# Altium schematic symbol library HVPSlibrary.SchLib: 115 symbols
Pins are listed as number, name and electrical type; pins without a type are passive.

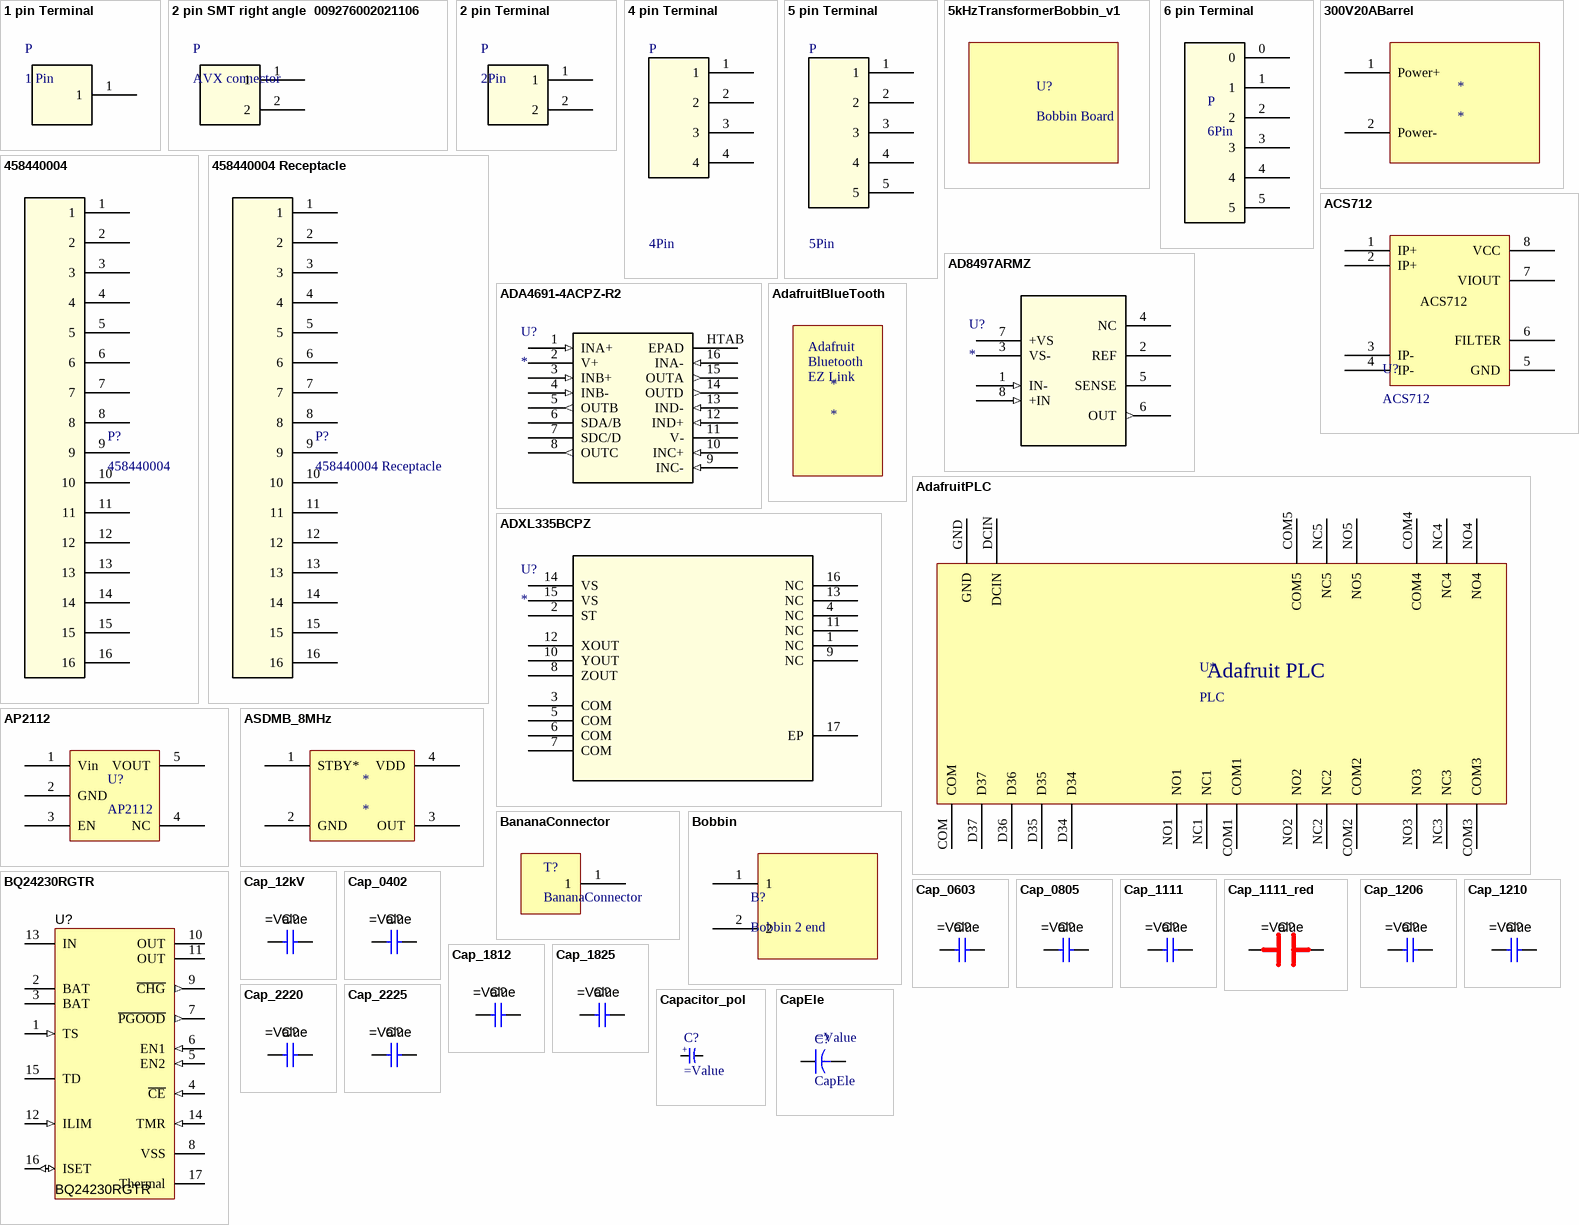
[diagram p0: symbols 1 pin Terminal to CapEle]

## 1 pin Terminal
designator P, comment 1 Pin
1 pin Terminal; ComponentLink1: http://www.digikey.com/scripts/DkSearch/dksus.dll?Detail&itemSeq=199109645&uq=636009051484125489
footprint 1 Pin terminal_MillMax
pins: 1

## 2 pin SMT right angle  009276002021106
designator P, comment AVX connector
2PinSMT; ComponentLink1: http://www.digikey.com/scripts/DkSearch/dksus.dll?Detail&itemSeq=195945201&uq=635977101282764137
footprint 2 pin SMT right angle 009276002021106
pins: 1, 2

## 2 pin Terminal
designator P, comment 2Pin
2 pin Terminal; ComponentLink1: http://www.digikey.com/scripts/DkSearch/dksus.dll?Detail&itemSeq=195945201&uq=635977101282764137
footprint 2 pin Terminal - pitch 2.54mm
footprint 2 pin Terminal - pitch 1.27mm
footprint 2 pin Terminal - pitch 2.54mm - vertical
footprint HiroseDF3
footprint Hirose_DF52_2pin
footprint 2 pin Terminal - pitch 2.54mm - pressfit
footprint 2 pin Terminal - pitch 2.54mm - pressfit - SHORT
footprint Molex 395001002
footprint 2 pin Terminal - pitch 1.27mm - right angle (Right angle, male pin)
footprint S2B-ZR connector (2 pin JST ZH connector)
pins: 1, 2

## 4 pin Terminal
designator P, comment 4Pin
4 pin Terminal; ComponentLink1: http://www.digikey.com/product-detail/en/te-connectivity-amp-connectors/3-644456-6/A31116-ND/698348
footprint 4 pin Terminal - pitch 2.54mm
footprint 4 pin Terminal - pitch 2.54mm - female
footprint 4 pin Terminal - pitch 1.27mm - right angle (Right angle, male pin)
footprint S4B-ZR connector (4 pin JST ZH connector)
pins: 1, 2, 3, 4

## 5 pin Terminal
designator P, comment 5Pin
5 pin Terminal; ComponentLink1: http://www.digikey.com/product-detail/en/te-connectivity-amp-connectors/3-644456-6/A31116-ND/698348
footprint 5 pin Terminal - pitch 2.54mm
footprint 5 pin Terminal - pitch 1.27mm - right angle (Right angle, male pin)
pins: 1, 2, 3, 4, 5

## 5kHzTransformerBobbin_v1
designator U?, comment Bobbin Board
footprint 5kHzTransformerBobbin_v1
footprint 5kHzTransformerBobbin_v1_PVC

## 6 pin Terminal
designator P, comment 6Pin
6 pin Terminal; ComponentLink1: http://www.digikey.com/product-detail/en/te-connectivity-amp-connectors/3-644456-6/A31116-ND/698348
footprint 6 pin Terminal - pitch 2.54mm
footprint 6 pin Terminal - pitch 2.54mm - female
footprint 6 pin Terminal - pitch 2.54mm - right angle (Right angle, male pin)
footprint 6 pin Terminal - pitch 1.27mm - right angle (Right angle, male pin)
footprint S6B-ZR connector (6pin JST ZH connector)
pins: 0, 1, 2, 3, 4, 5

## 300V20ABarrel
designator *
footprint PowerBarrel300V
pins: 1 Power+, 2 Power-

## 458440004
designator P?
458440004, Molex, Card Edge Connectors; ComponentLink: http://www.digikey.com/product-detail/en/molex-llc/0458440004/WM7543-ND/3044615
footprint Straddle 16 POS
pins: 1, 2, 3, 4, 5, 6, 7, 8, 9, 10, 11, 12, 13, 14, 15, 16

## 458440004 Receptacle
designator P?
458440004, Molex, Card Edge Connectors Receptacle; ComponentLink: http://www.digikey.com/product-detail/en/molex-llc/0458440004/WM7543-ND/3044615
footprint Straddle 16 Mating PCB FootPrint
footprint Straddle 16 Mating PCB FootPrint - pitch 1.27
pins: 1, 2, 3, 4, 5, 6, 7, 8, 9, 10, 11, 12, 13, 14, 15, 16

## ACS712
designator U?
Hall Sensor IC (6 x 5mm); SubFamily: Hall effect current sensor; Bandwidth: 80 kHz; Vin (V): 5 V; ComponentLink1URL: http://www.allegromicro.com/en/Products/Current-Sensor-ICs/Zero-To-Fifty-Amp-Integrated-Conductor-Sensor-ICs/ACS712.aspx; ComponentLink1Description: Manufacurer link; Package: SOIC8; ComponentLink2URL: http://www.digikey.com/product-detail/en/allegro-microsystems-llc/ACS712ELCTR-05B-T/620-1189-1-ND/1284606; ComponentLink2Description: Digikey
footprint SOIC-8
pins: 1 IP+, 2 IP+, 3 IP-, 4 IP-, 5 GND, 6 FILTER, 7 VIOUT, 8 VCC

## AD8497ARMZ
designator U?
Imported; RefDes: RefDes; Type: Type; Value: Value
footprint RM_8
pins: 1 IN- (in), 2 REF, 3 VS-, 4 NC, 5 SENSE, 6 OUT (out), 7 +VS, 8 +IN (in)

## ADA4691-4ACPZ-R2
designator U?
Imported; Manufacturer_Part_Number: ada4691-4acpz-r2; Vendor: ANALOG; C: Copyright (C) 2015 Accelerated Designs. All rights reserved; Copyright: Copyright (C) 2015 Accelerated Designs. All rights reserved; RefDes: RefDes; Type: Type; Value: Value
footprint CP_16_22
footprint CP_16_22
pins: 1 INA+ (in), 2 V+, 3 INB+ (in), 4 INB- (in), 5 OUTB (out), 6 SDA/B, 7 SDC/D, 8 OUTC (out), 9 INC- (in), 10 INC+ (in), 11 V-, 12 IND+ (in), 13 IND- (in), 14 OUTD (out), 15 OUTA (out), 16 INA- (in), HTAB EPAD

## AdafruitBlueTooth
designator *
footprint Adafruit Bluefruit EZ Link
text: Adafruit; Bluetooth; EZ Link

## AdafruitPLC
designator U*, comment PLC
Link: https://www.adafruit.com/product/3418
pins: COM, COM1, COM2, COM3, COM4, COM5, D34, D35, D36, D37, DCIN, GND, NC1, NC2, NC3, NC4, NC5, NO1, NO2, NO3, NO4, NO5
text: Adafruit PLC

## ADXL335BCPZ
designator U?
Imported; Manufacturer_Part_Number: ADXL320JCP; Vendor: Vendor; RefDes: RefDes; Type: Type; Value: Value
footprint CP_16_5A
footprint CP_16_5A
pins: 1 NC, 2 ST, 3 COM, 4 NC, 5 COM, 6 COM, 7 COM, 8 ZOUT, 9 NC, 10 YOUT, 11 NC, 12 XOUT, 13 NC, 14 VS (power), 15 VS (power), 16 NC, 17 EP

## AP2112
designator U?
AP2112, LDO; ComponentLink: http://www.digikey.com/scripts/DkSearch/dksus.dll?Detail&itemSeq=196056318&uq=635977843130932286
footprint SOT23-5
pins: 1 Vin, 2 GND, 3 EN, 4 NC, 5 VOUT

## ASDMB_8MHz
designator *
footprint ASDMB
pins: 1 STBY*, 2 GND, 3 OUT, 4 VDD

## BananaConnector
designator T?
footprint BananaJack2mm
footprint BananaJack2mm_SMT
pins: 1

## Bobbin
designator B?, comment Bobbin 2 end
footprint RM14 Bobbin
footprint RM14 Bobbin - full
footprint RM14 Bobbin - shrink
pins: 1, 2

## BQ24230RGTR
designator U?
USB Friendly 0.5 A Li+ Charger with Dynamic Power Management, 10.5 V OVP, 4.3 V, -40 to 85 degC, 16-pin QFN (RGT), Green (RoHS & no Sb/Br); Manufacturer: Texas Instruments; Alternate Manufacturer: None; Alternate PartNumber: Equivalent; Lead Acid: N; SubFamily: Battery Charge Management; Vin(Min)(V): 4.35; DatasheetVersion: SLUS821C; PackageVersion: revH, Oct-2011; PackageReference: RGT0016C; PackageDescription: 16-Pin Plastic Quad Flat No-Lead, 3 x 3 mm Body, 0.5 mm Pitch, 1.7 x 1.7 mm Exposed Pad; Supplier 1: Digi-Key; Supplier Part Number 1: BQ24230RGTR-ND; Supplier 2: Mouser; Supplier Part Number 2: 595-BQ24230RGTR; Eco-Plan: Green (RoHS & no Sb/Br); Li-Ion: N; Li-Polymer: N; NiCd: N; NiMH: N; Over Voltage Protection: N; MountType: SMT; PartNumber: BQ24230RGTR; Code_JEDEC: MO-220; ComponentLink1Description: Datasheet; ComponentLink1URL: http://www.ti.com/general/docs/lit/getliterature.tsp?genericPartNumber=BQ24232&fileType=pdf
footprint RGT16_1P7X1P7
footprint RGT16_1P7X1P7
pins: 1 TS (in) "External NTC Thermistor Input. Connect the TS input to the NTC thermistor in the battery pack. TS monitors a 10-k ohm NTC thermistor. For applications that do not utilize the TS function, connect a 10-k ohm fixed resistor (See Datasheet)", 2 BAT (power) "Charger Power Stage Output and Battery Voltage Sense Input. Connect BAT to the positive terminal of the battery. Bypass BAT to VSS with a 4.7-uF to 47-uF ceramic capacitor.", 3 BAT (power) "Charger Power Stage Output and Battery Voltage Sense Input. Connect BAT to the positive terminal of the battery. Bypass BAT to VSS with a 4.7-uF to 47-uF ceramic capacitor.", 4 ~{CE} (in) "Charge Enable Active-Low Input. Connect C\E\ to a high logic level to place the battery charger in standby mode. In standby mode, OUT is active and battery supplement mode is still available. Connect C\E\ to a low logic (See Datasheet)", 5 EN2 (in) "Input Current Limit Configuration Inputs. Use EN2 control the maximum input current and enable USB compliance. See Table 2 for the description of the operation states. EN2 is internally pulled down with ~285 k ohm. Do not (See Datasheet)", 6 EN1 (in) "Input Current Limit Configuration Inputs. Use EN1 control the maximum input current and enable USB compliance. See Table 2 for the description of the operation states. EN1  is internally pulled down with ~285 k ohm. Do not (See Datasheet)", 7 ~{PGOOD} (out) "Open-drain Power Good Status Indication Output. P\G\O\O\D\ pulls to VSS when a valid input source is detected. P\G\O\O\D\ is high-impedance when the input power is not within specified limits. Connect P\G\O\O\D\ to the (See Datasheet)", 8 VSS "Ground. Connect to the thermal pad and to the ground rail of the circuit.", 9 ~{CHG} (out) "Open-Drain Charging Status Indication Output. C\H\G\ pulls to VSS when the battery is charging. C\H\G\ is high impedance when charging is complete and when charger is disabled.", 10 OUT (power) "System Supply Output. OUT provides a regulated output when the input is below the OVP threshold and above the regulation voltage. When the input is out of the operation range, OUT is connected to VBAT. Connect OUT to the (See Datasheet)", 11 OUT (power) "System Supply Output. OUT provides a regulated output when the input is below the OVP threshold and above the regulation voltage. When the input is out of the operation range, OUT is connected to VBAT. Connect OUT to the (See Datasheet)", 12 ILIM (in) "Adjustable Current Limit Programming Input. Connect a 3.1-k ohm to 7.8-k ohm resistor from ILIM to VSS to program the maximum input current (EN2=1, EN1=0). The input current includes the system load and the battery charge (See Datasheet)", 13 IN (power) "Input Power Connection. Connect IN to the connected to external DC supply (AC adapter or USB port). The input operating range is 4.35 V to 6.6 V. The input can accept voltages up to 26 V without damage but operation is (See Datasheet)", 14 TMR (in) "Timer Programming Input. TMR controls the precharge and fast-charge safety timers. Connect TMR to VSS to disable all safety timers. Connect a 18-k ohm to 72-k ohm resistor between TMR and VSS to program the timers a desired (See Datasheet)", 15 TD "Termination Current Programming Input. Connect a 0-ohm to 15-k ohm resistor from ITERM to VSS to program the termination current. Leave ITERM unconnected to set the termination current to the internal default 10% threshold.", 16 ISET (io) "Fast-Charge Current Programming Input. Connect a 3-k ohm to 36-k ohm resistor from ISET to VSS to program the fast-charge current level. Charging is disabled if ISET is left unconnected. While charging, the voltage at ISET (See Datasheet)", 17 Thermal "Ground. Connect to the thermal pad and to the ground rail of the circuit."

## Cap_12kV
designator C?
CAP, HV, 12kV; Polarized: N; CompType: Capacitor; U/M: EA; Cap_Case: Through-hole; SymbolVersion: 2015-08-22; RoHS: Y; MountType: SMT mounting; Published: 2015-08-22; Publisher: YiouHe; Value: =Value
simulation model Cap
footprint Cap_12kV (Through-hole Capacitor, Body 10x10 mm)
pins: 1, 2

## Cap_0402
designator C?
CAP, CERM, 0402; Polarized: N; CompType: Capacitor; U/M: EA; Cap_Case: 0603; SymbolVersion: 2015-08-22; RoHS: Y; MountType: SMT; Published: 2015-08-22; Publisher: YiouHe; Value: =Value
simulation model Cap
footprint CAP0402 (Chip Capacitor, 2-Leads, Body 1.0x0.5mm, IPC Medium Density)
pins: 1, 2

## Cap_0603
designator C?
CAP, CERM, 0603; Polarized: N; CompType: Capacitor; U/M: EA; Cap_Case: 0603; SymbolVersion: 2015-08-22; RoHS: Y; MountType: SMT; Published: 2015-08-22; Publisher: YiouHe; Value: =Value
simulation model Cap
footprint CAP0603 (Chip Capacitor, 2-Leads, Body 1.6x0.8mm, IPC Medium Density)
pins: 1, 2

## Cap_0805
designator C?
CAP, CERM, 0805; Polarized: N; CompType: Capacitor; U/M: EA; Cap_Case: 0805; SymbolVersion: 2015-08-22; RoHS: Y; MountType: SMT; Published: 2015-08-22; Publisher: YiouHe; Value: =Value
simulation model Cap
footprint IND0805 (Chip Inductor 2-Leads, Body 2.0x1.2mm, IPC Medium Density)
pins: 1, 2

## Cap_1111
designator C?
CAP, CERM, 1111; Polarized: N; CompType: Capacitor; U/M: EA; Cap_Case: 1111; SymbolVersion: 2015-08-22; RoHS: Y; MountType: SMT; Published: 2015-08-22; Publisher: YiouHe; Value: =Value
simulation model Cap
footprint C1111 (Chip Capacitor, Body 2.98x2.79mm, IPC High Density)
pins: 1, 2

## Cap_1111_red
designator C?
CAP, CERM, 1111; Polarized: N; CompType: Capacitor; U/M: EA; Cap_Case: 1111; SymbolVersion: 2015-08-22; RoHS: Y; MountType: SMT; Published: 2015-08-22; Publisher: YiouHe; Value: =Value
simulation model Cap
footprint C1111 (Chip Capacitor, Body 2.98x2.79mm, IPC High Density)
pins: 1, 2

## Cap_1206
designator C?
CAP, CERM, 1206; Polarized: N; CompType: Capacitor; U/M: EA; Cap_Case: 1206; SymbolVersion: 2015-08-22; RoHS: Y; MountType: SMT; Published: 2015-08-22; Publisher: YiouHe; Value: =Value
simulation model Cap
footprint C1206 (Chip Capacitor, Body 3.2x1.6mm, IPC High Density)
pins: 1, 2

## Cap_1210
designator C?
CAP, CERM, 1210; Polarized: N; CompType: Capacitor; U/M: EA; Cap_Case: 1210; SymbolVersion: 2015-08-22; RoHS: Y; MountType: SMT; Published: 2015-08-22; Publisher: YiouHe; Value: =Value
simulation model Cap
footprint C1210 (Chip Capacitor, Body 3.2x2.5mm, IPC High Density)
pins: 1, 2

## Cap_1812
designator C?
CAP, CERM, 1812; Polarized: N; CompType: Capacitor; U/M: EA; Cap_Case: 1812; SymbolVersion: 2015-08-22; RoHS: Y; MountType: SMT; Published: 2015-08-22; Publisher: YiouHe; Value: =Value
simulation model Cap
footprint C1812 (Chip Capacitor, Body 4.5x3.2mm, IPC High Density)
pins: 1, 2

## Cap_1825
designator C?
CAP, CERM, 1825; Polarized: N; CompType: Capacitor; U/M: EA; Cap_Case: 1825; SymbolVersion: 2015-08-22; RoHS: Y; MountType: SMT; Published: 2015-08-22; Publisher: YiouHe; Value: =Value
simulation model Cap
footprint C1825 (Chip Capacitor, Body 4.6x6.3mm, IPC High Density)
pins: 1, 2

## Cap_2220
designator C?
CAP, CERM, 2220; Polarized: N; CompType: Capacitor; U/M: EA; Cap_Case: 2220; SymbolVersion: 2015-08-22; RoHS: Y; MountType: SMT; Published: 2015-08-22; Publisher: YiouHe; Value: =Value
simulation model Cap
footprint C2220 (Chip Capacitor, Body 5.7x5mm, IPC High Density)
footprint C2220_roundedge (Chip Capacitor, Body 5.7x5mm, IPC High Density)
pins: 1, 2

## Cap_2225
designator C?
CAP, CERM, 2225; Polarized: N; CompType: Capacitor; U/M: EA; Cap_Case: 2225; SymbolVersion: 2015-08-22; RoHS: Y; MountType: SMT; Published: 2015-08-22; Publisher: YiouHe; Value: =Value
simulation model Cap
footprint C2225 (Chip Capacitor, Body 5.7x6.4mm, IPC High Density)
pins: 1, 2

## Capacitor_pol
designator C?
Polarised chip capacitor
footprint C1206 (Chip Capacitor, Body 3.2x1.6mm, IPC High Density)
pins: 1, 2
text: +

## CapEle
designator C?
Capacitor; Published: 23-Sep-2002; PackageReference: CAPR5-4X5; Publisher: Altium Limited; PackageDescription: Capacitor; 2 Leads; Value: =Value
simulation model CAP (Capacitor)
signal-integrity model Cap
footprint ElecCap
footprint ElecCap - 3.5 mm space
pins: 1, 2

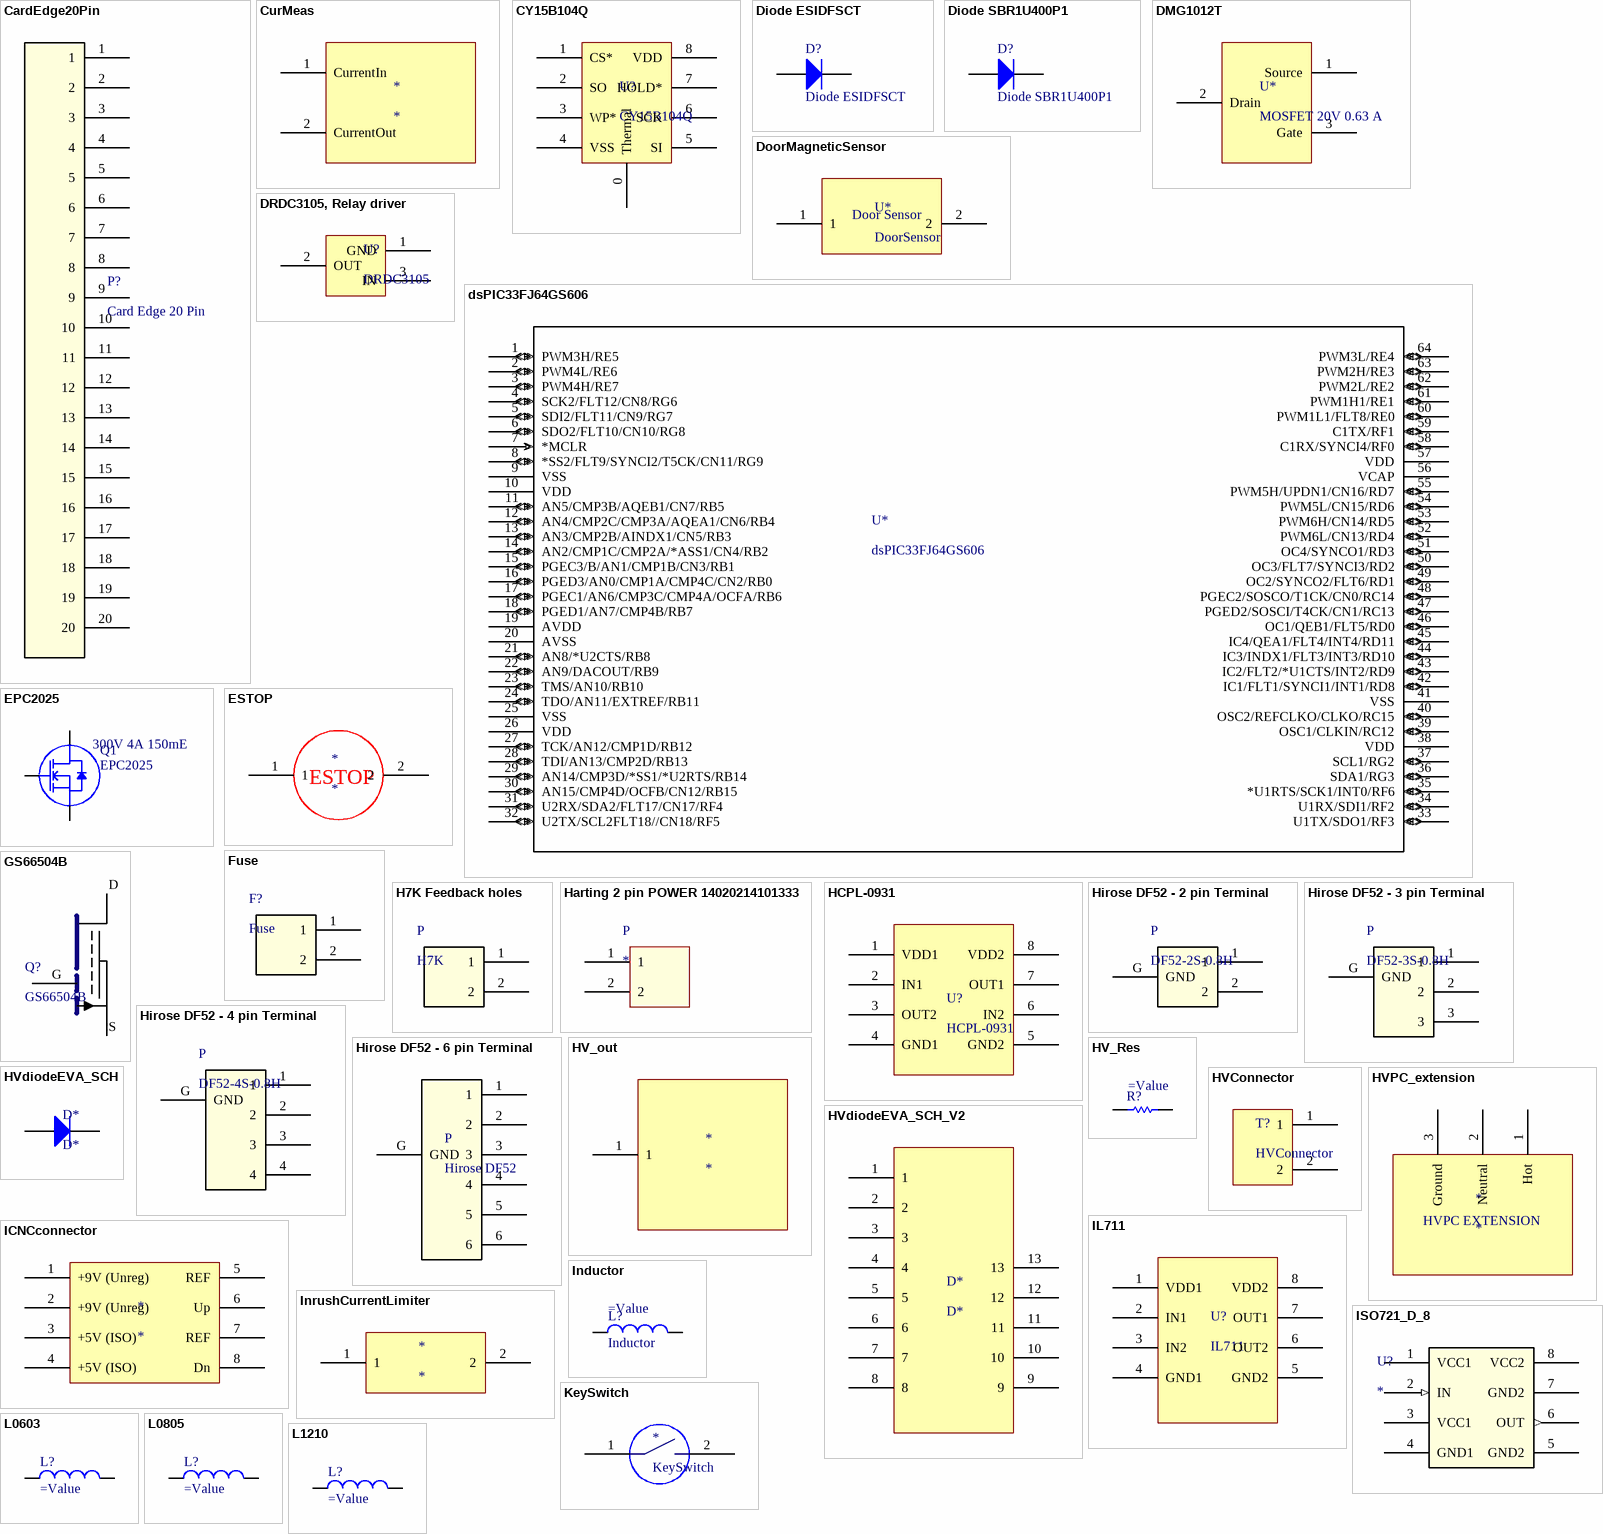
[diagram p1: symbols CardEdge20Pin to L1210]

## CardEdge20Pin
designator P?, comment Card Edge 20 Pin
3M 20 pin card edge, SPD08-020-RB-TR; ComponentLink: https://www.digikey.com/products/en?keywords=3M10682CT-ND
footprint 3MCardEdge20Pin_Board (SPD08-020-RB-TR)
footprint 3MCardEdge20Pin_Connector (SPD08-020-RB-TR)
pins: 1, 2, 3, 4, 5, 6, 7, 8, 9, 10, 11, 12, 13, 14, 15, 16, 17, 18, 19, 20

## CurMeas
designator *
footprint CurrentSensor
pins: 1 CurrentIn, 2 CurrentOut

## CY15B104Q
designator U?
CY15B104Q, Cypress, 4MB, F-Ram
footprint DFN-8pin
pins: 0 Thermal, 1 CS*, 2 SO, 3 WP*, 4 VSS, 5 SI, 6 SCK, 7 HOLD*, 8 VDD

## Diode ESIDFSCT
designator D?
ES1DFSCT; Published: 8-Sept-2015; PackageReference: 2106; Publisher: Altium Limited; PackageDescription: Diode, pad 5.49x1.67 mm (LxW. max); ComponentLink1Description: Manufacturer Link; ComponentLink1URL: http://www.digikey.com/product-detail/en/ES1D/ES1DFSCT-ND/458940
footprint 2106
pins: 1 A, 2 K

## Diode SBR1U400P1
designator D?
SBR1U400P1; Published: 8-Sept-2015; PackageReference: 2106; Publisher: Altium Limited; PackageDescription: Diode, pad 5.49x1.67 mm (LxW. max); ComponentLink1Description: Manufacturer Link; ComponentLink1URL: http://www.digikey.com/product-detail/en/ES1D/ES1DFSCT-ND/458940
footprint SBR1U400P1
pins: A, K

## DMG1012T
designator U*, comment MOSFET 20V 0.63 A
Component Link: http://www.diodes.com/_files/datasheets/ds31783.pdf
footprint SOT523
pins: 1 Source, 2 Drain, 3 Gate

## DoorMagneticSensor
designator U*, comment DoorSensor
Link: https://www.adafruit.com/product/375
pins: 1, 2
text: Door Sensor

## DRDC3105, Relay driver
designator U?, comment DRDC3105
DRDC3105, Relay driver; ComponentLink: http://www.digikey.com/product-detail/en/diodes-incorporated/DRDC3105F-7/DRDC3105F-7DICT-ND/3028441
footprint SOT23 (3 PIN)
pins: 1 GND, 2 OUT, 3 IN

## dsPIC33FJ64GS606
designator U*
MicroChip High Speed PWM MCU; SubFamily: Microcontroller; Vin (V): 3 - 3.6 V; ComponentLink1URL: http://www.digikey.com/product-detail/en/microchip-technology/DSPIC33FJ64GS610-50I%2FPF/DSPIC33FJ64GS610-50I%2FPF-ND/3046584; ComponentLink1Description: Digikey link; ComponentLink2URL: http://ww1.microchip.com/downloads/en/DeviceDoc/70000591f.pdf; ComponentLink2Description: Datasheet; DatasheetVersion: DS7000591F; Package: 64-pin TQFN, Body 10x10 mm, pitch 0.5 BSC; Manufacturer: Microchip; PartNumber: dsPIC33FJ64GS606
footprint TQFP64_10x10MC
footprint TQFP64_10x10MC
pins: 1 PWM3H/RE5 (io), 2 PWM4L/RE6 (io), 3 PWM4H/RE7 (io), 4 SCK2/FLT12/CN8/RG6 (io), 5 SDI2/FLT11/CN9/RG7 (io), 6 SDO2/FLT10/CN10/RG8 (io), 7 *MCLR (in), 8 *SS2/FLT9/SYNCI2/T5CK/CN11/RG9 (io), 9 VSS, 10 VDD (power), 11 AN5/CMP3B/AQEB1/CN7/RB5 (io), 12 AN4/CMP2C/CMP3A/AQEA1/CN6/RB4 (io), 13 AN3/CMP2B/AINDX1/CN5/RB3 (io), 14 AN2/CMP1C/CMP2A/*ASS1/CN4/RB2 (io), 15 PGEC3/B/AN1/CMP1B/CN3/RB1 (io), 16 PGED3/AN0/CMP1A/CMP4C/CN2/RB0 (io), 17 PGEC1/AN6/CMP3C/CMP4A/OCFA/RB6 (io), 18 PGED1/AN7/CMP4B/RB7 (io), 19 AVDD (power), 20 AVSS, 21 AN8/*U2CTS/RB8 (io), 22 AN9/DACOUT/RB9 (io), 23 TMS/AN10/RB10 (io), 24 TDO/AN11/EXTREF/RB11 (io), 25 VSS, 26 VDD (power), 27 TCK/AN12/CMP1D/RB12 (io), 28 TDI/AN13/CMP2D/RB13 (io), 29 AN14/CMP3D/*SS1/*U2RTS/RB14 (io), 30 AN15/CMP4D/OCFB/CN12/RB15 (io), 31 U2RX/SDA2/FLT17/CN17/RF4 (io), 32 U2TX/SCL2FLT18//CN18/RF5 (io), 33 U1TX/SDO1/RF3 (io), 34 U1RX/SDI1/RF2 (io), 35 *U1RTS/SCK1/INT0/RF6 (io), 36 SDA1/RG3 (io), 37 SCL1/RG2 (io), 38 VDD (power), 39 OSC1/CLKIN/RC12 (io), 40 OSC2/REFCLKO/CLKO/RC15 (io), 41 VSS, 42 IC1/FLT1/SYNCI1/INT1/RD8 (io), 43 IC2/FLT2/*U1CTS/INT2/RD9 (io), 44 IC3/INDX1/FLT3/INT3/RD10 (io), 45 IC4/QEA1/FLT4/INT4/RD11 (io), 46 OC1/QEB1/FLT5/RD0 (io), 47 PGED2/SOSCI/T4CK/CN1/RC13 (io), 48 PGEC2/SOSCO/T1CK/CN0/RC14 (io), 49 OC2/SYNCO2/FLT6/RD1 (io), 50 OC3/FLT7/SYNCI3/RD2 (io), 51 OC4/SYNCO1/RD3 (io), 52 PWM6L/CN13/RD4 (io), 53 PWM6H/CN14/RD5 (io), 54 PWM5L/CN15/RD6 (io), 55 PWM5H/UPDN1/CN16/RD7 (io), 56 VCAP (power), 57 VDD (power), 58 C1RX/SYNCI4/RF0 (io), 59 C1TX/RF1 (io), 60 PWM1L1/FLT8/RE0 (io), 61 PWM1H1/RE1 (io), 62 PWM2L/RE2 (io), 63 PWM2H/RE3 (io), 64 PWM3L/RE4 (io)

## EPC2025
designator Q1  value 300V 4A 150mE
300V 4A 150mE; PCBfootprint: EPC2x300M; MFG: EPC; Config: *; MFGPN: EPC2025
footprint EPC2X300M (Micro SMD 2mm x 2mm 12pin BGA)
pins: 1 G, 2 SS (oe), 3 SP2 (oe), 4 SP1 (oe), 5 D2 (oc), 6 D1 (oc), 7 D3 (oc), 8 D4 (oc), 9 SP3 (oe), 10 SP4 (oe), 11 SP3 (oe), 12 SP3 (oe)

## ESTOP
designator *
pins: 1, 2

## Fuse
designator F?
ComponentLink1: http://www.digikey.com/scripts/DkSearch/dksus.dll?Detail&itemSeq=195945201&uq=635977101282764137
footprint LittleFuse462
pins: 1, 2

## GS66504B
designator Q?
GAN TRANS E-MODE 650V
footprint GS66504B (GAN TRANS E-MODE 650V)
footprint GS66504B (GAN TRANS E-MODE 650V)
pins: D, G, S

## H7K Feedback holes
designator P, comment H7K
H7K Feedback holes
footprint H7kFBholes (High voltage side feedback holes)
pins: 1, 2

## Harting 2 pin POWER 14020214101333
designator P
Harting 2 pin POWER 14020214101333
footprint Harting 2 pin POWER 14020214101333
footprint Harting 2 pin POWER 14020214101333
pins: 1, 2

## HCPL-0931
designator U?
ComponentLink: http://www.digikey.com/product-detail/en/broadcom-limited/HCPL-0931/516-2702-5-ND/969355
footprint SOIC-8
pins: 1 VDD1, 2 IN1, 3 OUT2, 4 GND1, 5 GND2, 6 IN2, 7 OUT1, 8 VDD2

## Hirose DF52 - 2 pin Terminal
designator P, comment DF52-2S-0.8H
Hirose DF52 - 2 pin Terminal; ComponentLink1: http://www.mouser.com/ds/2/185/DF52_catalog-939321.pdf
footprint Hirose_DF52_2pin
pins: 1, 2, G GND

## Hirose DF52 - 3 pin Terminal
designator P, comment DF52-3S-0.8H
Hirose DF52 - 3 pin Terminal; ComponentLink1: http://www.mouser.com/ds/2/185/DF52_catalog-939321.pdf
footprint Hirose_DF52_3pin
pins: 1, 2, 3, G GND

## Hirose DF52 - 4 pin Terminal
designator P, comment DF52-4S-0.8H
Hirose DF52 - 4 pin Terminal; ComponentLink1: http://www.mouser.com/ds/2/185/DF52_catalog-939321.pdf
footprint Hirose_DF52_4pin
pins: 1, 2, 3, 4, G GND

## Hirose DF52 - 6 pin Terminal
designator P, comment Hirose DF52
Hirose DF52 - 6 pin Terminal; ComponentLink1: http://www.digikey.com/product-detail/en/te-connectivity-amp-connectors/3-644456-6/A31116-ND/698348
footprint Hirose_DF52_6pin
pins: 1, 2, 3, 4, 5, 6, G GND

## HV_out
designator *
footprint HV_out (Output Connection)
pins: 1

## HV_Res
designator R?  (value not drawn)
Resistor; Published: 8-Sept-2015; LatestRevisionNote: Re-released for DXP Platform.; PackageReference: 5020; Publisher: Altium Limited; PackageDescription: SMD resistor; Value: =Value
simulation model RESISTOR (Resistor)
signal-integrity model Res
footprint RES5020
pins: 1, 2

## HVConnector
designator T?
footprint Hirose_DF22_2pin_rightangle
pins: 1, 2

## HVdiodeEVA_SCH
designator D*, comment D*
High Voltage Diodes for EVA board
footprint HVDiodeEVA_footprint1
footprint GeneSiC3_3kV
footprint GeneSiC3_3kV_bodyonly
pins: A, K

## HVdiodeEVA_SCH_V2
designator D*, comment D*
High Voltage Diodes for EVA board
footprint HVDIODEEVA_FULLARRAY_V1
footprint HVDIODEEVA_FULLARRAY_V2
footprint HVDIODEEVA_FULLARRAY_V3
footprint HVDIODEEVA_FULLARRAY_V4
footprint HVDIODEEVA_FULLARRAY_V5
footprint HVDIODEEVA_FULLARRAY_V6
pins: 1, 2, 3, 4, 5, 6, 7, 8, 9, 10, 11, 12, 13

## HVPC_extension
designator *
pins: 1 Hot, 2 Neutral, 3 Ground
text: HVPC EXTENSION

## ICNCconnector
designator *
footprint HDR2X4 (Connector; Header; 4x2 Position)
pins: 1 +9V (Unreg) (power), 2 +9V (Unreg) (power), 3 +5V (ISO) (power), 4 +5V (ISO) (power), 5 REF, 6 Up, 7 REF, 8 Dn

## IL711
designator U?
High speed digital isolator
footprint MSOP8
footprint MSOP8
footprint MSOP8
pins: 1 VDD1, 2 IN1, 3 IN2, 4 GND1, 5 GND2, 6 OUT2, 7 OUT1, 8 VDD2

## Inductor
designator L?
ResonantInd; Code_IEC: 1005; Published: 8-Jun-2000; LatestRevisionDate: 29-May-2009; LatestRevisionNote: IPC-7351 Footprint Added.; PackageReference: 0402-A; Publisher: Altium Limited; PackageDescription: Chip Inductor; Code_JEITA: 0402; Value: =Value
simulation model INDUCTOR (Inductor)
signal-integrity model Inductor
footprint CurrentSensor
footprint ASPI4mmInductor
footprint SD25inductor (http://www.cooperindustries.com/content/dam/public/bussmann/Electronics/Resources/product-datasheets/BUS_Elx_PM_4311_SD_Series_High_Power_Density.pdf)
pins: 1, 2

## InrushCurrentLimiter
designator *
footprint InrushCurrentLimiter
pins: 1, 2

## ISO721_D_8
designator U?
Imported; Manufacturer: Texas Instruments; GENERIC_PART_NUMBER: ISO721; Manufacturer_Part_Number: iso721_d_8; INDUSTRY_STD_PKG_TYPE: SOIC; FAMILY_NAME: ISOLATOR; PIN_COUNT: 8; PACKAGE_DESIGNATOR: D; Datasheet URL: http://www.ti.com/lit/gpn/ISO721; Vendor: Texas Instruments; RefDes: RefDes; Type: Type; Value: Value
footprint D8
footprint D8
pins: 1 VCC1 (power), 2 IN (in), 3 VCC1 (power), 4 GND1 (power), 5 GND2 (power), 6 OUT (out), 7 GND2 (power), 8 VCC2 (power)

## KeySwitch
designator *
Link: https://www.mcmaster.com/#7278k14/=1cmk0ed
pins: 1, 2

## L0603
designator L?
Chip Inductor; Value: =Value
footprint CAP0603 (Chip Capacitor, 2-Leads, Body 1.6x0.8mm, IPC Medium Density)
pins: 1, 2

## L0805
designator L?
Chip Inductor; Value: =Value
footprint IND0805 (Chip Inductor 2-Leads, Body 2.0x1.2mm, IPC Medium Density)
pins: 1, 2

## L1210
designator L?
Chip Inductor; Value: =Value
footprint C1210 (Chip Capacitor, Body 3.2x2.5mm, IPC High Density)
pins: 1, 2

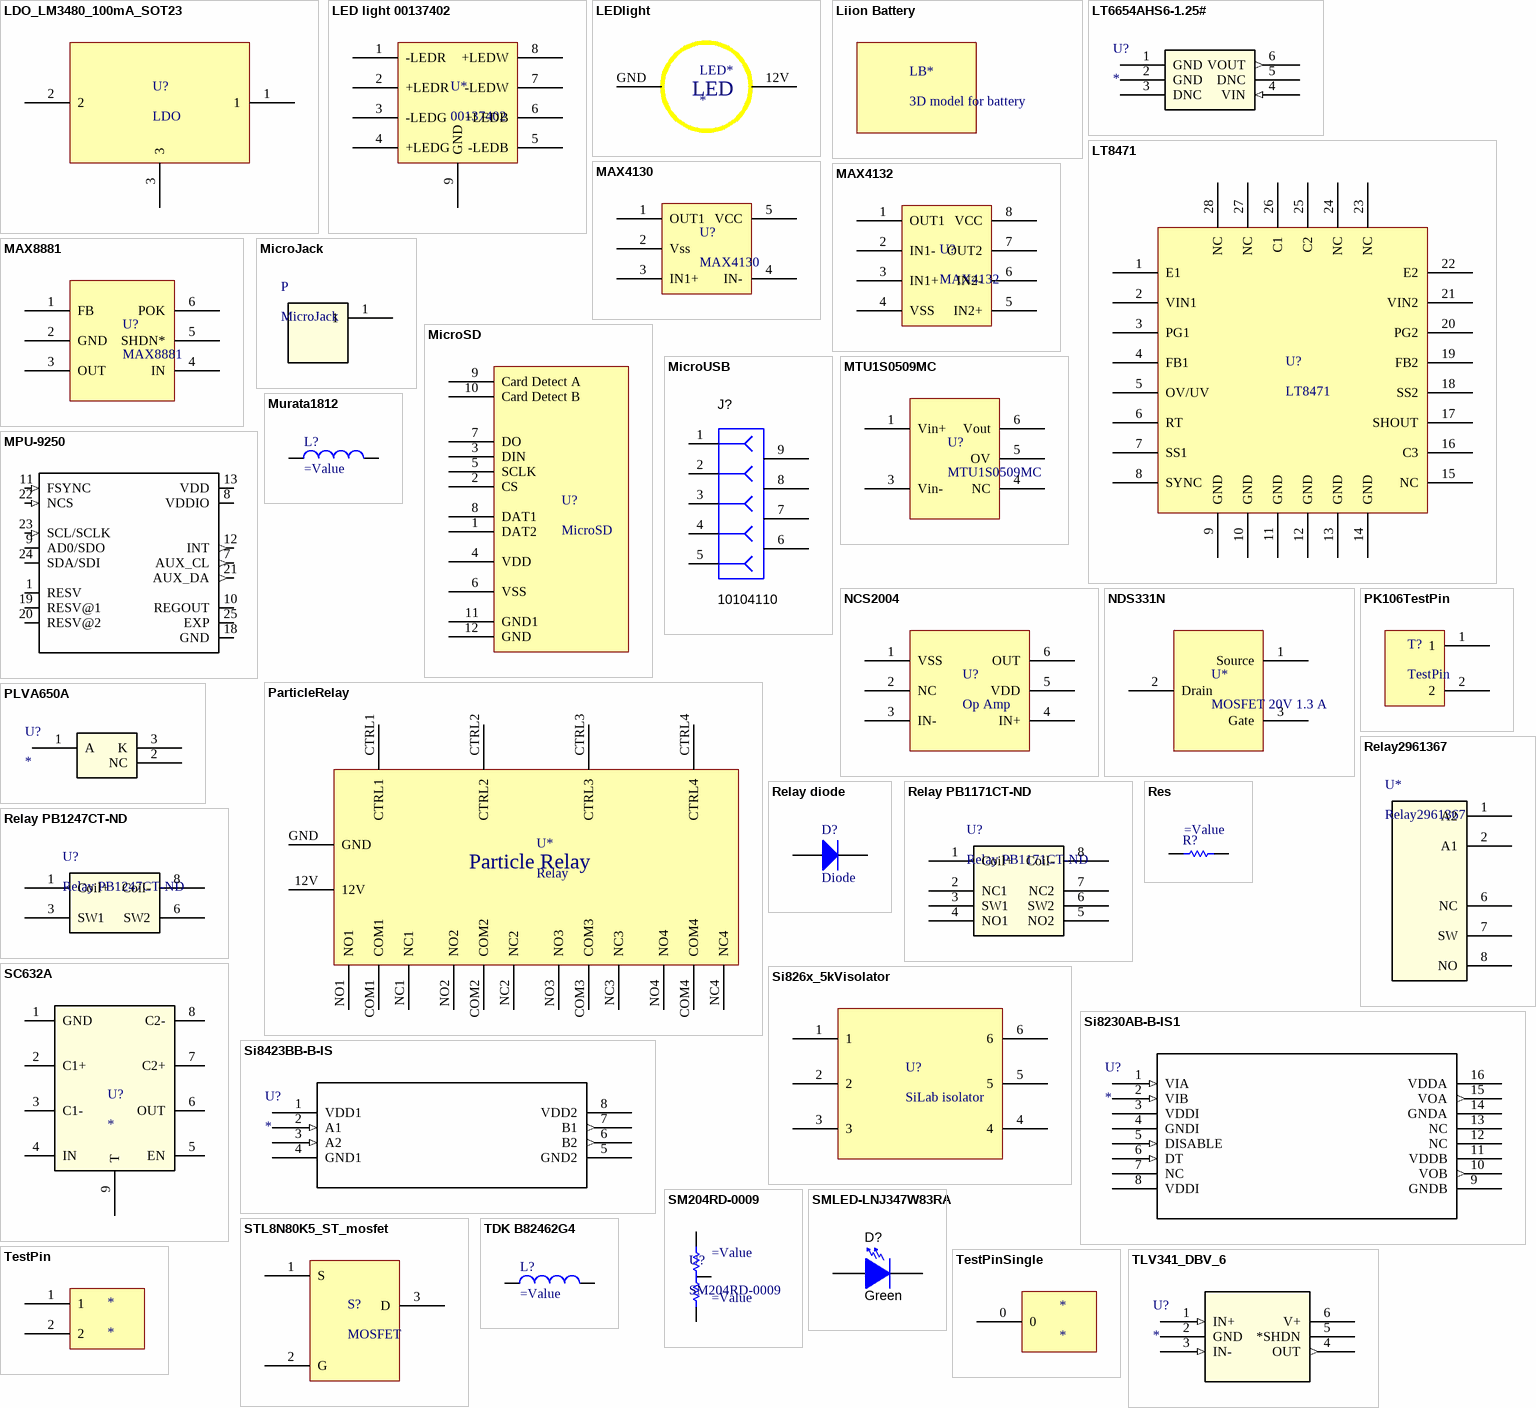
[diagram p2: symbols LDO_LM3480_100mA_SOT23 to TLV341_DBV_6]

## LDO_LM3480_100mA_SOT23
designator U?, comment LDO
TI LDO
footprint SOT23_TI_LDO (3 PIN)
pins: 1, 2, 3

## LED light 00137402
designator U*, comment 00137402
Multi color LED; Componentlink: http://www.osram-os.com/Graphics/XPic7/00137402_0.pdf
footprint LED00137402
pins: 1 -LEDR, 2 +LEDR, 3 -LEDG, 4 +LEDG, 5 -LEDB, 6 +LEDB, 7 -LEDW, 8 +LEDW, 9 GND

## LEDlight
designator LED*
Link: https://www.amazon.com/Xprite-Intensity-Enforcement-Emergency-Magnetic/dp/B01A7VCJEQ
pins: 12V, GND
text: LED

## Liion Battery
designator LB*, comment 3D model for battery
footprint 3D model for Lipo Battery (Nano Tech 130mAh)

## LT6654AHS6-1.25#
designator U?
Imported; Manufacturer_Part_Number: lt6654ahs6-1.25#trmpbf; Vendor: Linear Technology; Value: Value; Type: Type; RefDes: RefDes
footprint TSOT-23_S6
footprint TSOT-23_S6
pins: 1 GND (power), 2 GND (power), 3 DNC, 4 VIN (in), 5 DNC, 6 VOUT (out)

## LT8471
designator U?
LT8471, Dual Multitopology    DC/DC Converters with 2A   Switches and Synchronization; ComponentLinke1: http://www.digikey.com/product-detail/en/linear-technology/LT8471EUFD%23PBF/LT8471EUFD%23PBF-ND/5819075
footprint UFDQFN-28pin
pins: 1 E1, 2 VIN1, 3 PG1, 4 FB1, 5 OV/UV, 6 RT, 7 SS1, 8 SYNC, 9 GND, 10 GND, 11 GND, 12 GND, 13 GND, 14 GND, 15 NC, 16 C3, 17 SHOUT, 18 SS2, 19 FB2, 20 PG2, 21 VIN2, 22 E2, 23 NC, 24 NC, 25 C2, 26 C1, 27 NC, 28 NC

## MAX4130
designator U?
MAX4130, 1 Channel Wide band Op Amp; ComponentLink: http://www.digikey.com/product-detail/en/maxim-integrated/MAX4132ESA%2B/MAX4132ESA%2B-ND/947976
footprint SOT23-5
pins: 1 OUT1, 2 Vss, 3 IN1+, 4 IN-, 5 VCC

## MAX4132
designator U?
MAX4132, 2 Channel Wide band Op Amp; ComponentLink: http://www.digikey.com/product-detail/en/maxim-integrated/MAX4132ESA%2B/MAX4132ESA%2B-ND/947976
footprint SOIC-8
pins: 1 OUT1, 2 IN1-, 3 IN1+, 4 VSS, 5 IN2+, 6 IN2-, 7 OUT2, 8 VCC

## MAX8881
designator U?
MAX8881 LDO, 5V 200mA; ComponentLink1: http://www.digikey.com/product-detail/en/maxim-integrated/MAX8881EUT50%2BT/MAX8881EUT50%2BTCT-ND/948275
footprint SOT23-6
pins: 1 FB, 2 GND, 3 OUT, 4 IN, 5 SHDN*, 6 POK

## MicroJack
designator P
footprint MicroJack_1626
footprint MicroJack_1626 - 24 times
footprint MicroJack_1682 - 24 times
pins: 1

## MicroSD
designator U?
Note: Referenced to Adafruit.lbr eagle library; ComponentLink1: https://learn.adafruit.com/downloads/pdf/adafruit-micro-sd-breakout-board-card-tutorial.pdf
footprint MicroSD - TE (MicroSD from TE)
footprint MicroSD - TE (MicroSD from TE)
footprint MicroSD - TE (MicroSD from TE)
pins: 1 DAT2, 2 CS, 3 DIN, 4 VDD, 5 SCLK, 6 VSS, 7 DO, 8 DAT1, 9 Card Detect A, 10 Card Detect B, 11 GND1, 12 GND

## MicroUSB
designator J?, comment 10104110
Connector, micro USB Type B, Receptacle, R/A, SMD; Manufacturer: Hirose Electric Co. Ltd.; SymbolCreator: a0411947; U/M: EA; SymbolVersion: 2013-04-05; PartNumber: 10104110; PackageReference: Micro USB-B receptacle; CompType: Receptacle; RoHS: Y; MountType: SMT; ComponentLink1Description: Datasheet Link; ComponentLink1URL: http://www.digikey.com/scripts/DkSearch/dksus.dll?Detail&itemSeq=196006214&uq=635977317424936891; Publisher: Texas Instruments; LatestRevisionDate: 2013-11-19
footprint CONN_USB_micro_molex 47346
pins: 1, 2, 3, 4, 5, 6, 7, 8, 9

## MPU-9250
designator U?  (value not drawn)
SMD Gyroscope/Accelerometer/Magnetometer Sensor; 9-AXIS; MF: InvenSense; Price: 7.52 USD; MP: MPU-9250; Package: QFN-24 InvenSense; Availability: Good; Value: *
footprint QFN40P300X300X105-25N
footprint QFN40P300X300X105-25N
pins: 1 RESV (power), 7 AUX_CL (out), 8 VDDIO (power), 9 AD0/SDO (io), 10 REGOUT, 11 FSYNC (in), 12 INT (out), 13 VDD (power), 18 GND (power), 19 RESV@1 (power), 20 RESV@2 (power), 21 AUX_DA (out), 22 NCS (in), 23 SCL/SCLK (in), 24 SDA/SDI (io), 25 EXP (power)

## MTU1S0509MC
designator U?
MTU1S0509MC, Murata 1W isolated DC DC converter 9V output; ComponentLink1: http://www.digikey.com/product-detail/en/murata-power-solutions-inc/MTU1S0509MC/811-2251-5-ND/2444802
footprint MTU1S0509MC - 5 SMD
pins: 1 Vin+, 3 Vin-, 4 NC, 5 OV, 6 Vout

## Murata1812
designator L?
Murata1812; Value: =Value
footprint MurataChipInductor_1812
pins: 1, 2

## NCS2004
designator U?, comment Op Amp
NCS2004, Op Amp; ComponentLink1: http://www.digikey.com/product-detail/en/on-semiconductor/NCS2004AMUTAG/NCS2004AMUTAGOSCT-ND/5761675
footprint UDFN6 (5 pin)
pins: 1 VSS, 2 NC, 3 IN-, 4 IN+, 5 VDD, 6 OUT

## NDS331N
designator U*, comment MOSFET 20V 1.3 A
Component Link: https://www.fairchildsemi.com/datasheets/ND/NDS331N.pdf
footprint SOT23 Super (3 PIN)
pins: 1 Source, 2 Drain, 3 Gate

## ParticleRelay
designator U*, comment Relay
Link: https://www.adafruit.com/product/3051
pins: 12V, COM1, COM2, COM3, COM4, CTRL1, CTRL2, CTRL3, CTRL4, GND, NC1, NC2, NC3, NC4, NO1, NO2, NO3, NO4
text: Particle Relay

## PK106TestPin
designator T?, comment TestPin
footprint PK106_4
footprint PK106_4_SMT
footprint PK106_4_SMT_NoCAD
pins: 1, 2

## PLVA650A
designator U?
Zener Diode 5V; Manufacturer_Part_Number: plva650a; Vendor: NXP; C: Copyright (C) 2015 Accelerated Designs. All rights reserved; Copyright: Copyright (C) 2015 Accelerated Designs. All rights reserved; RefDes: RefDes; Type: Type; Value: Value
footprint SOT23
footprint SOT23 - ZenerDiode
pins: 1 A, 2 NC, 3 K

## Relay2961367
designator U*
6A relay Relay2961367
footprint Relay 2961367
pins: 1 A2, 2 A1, 6 NC, 7 SW, 8 NO

## Relay diode
designator D?, comment Diode
Relay diode; PackageReference: 0603; Publisher: Altium Limited; ComponentLink1Description: Manufacturer Link
footprint RES0603 (Chip Resistor, 2-Leads, Body 1.6x0.8mm, IPC Medium Density)
pins: 1 A, 2 K

## Relay PB1171CT-ND
designator U?
Relay PB1171CT-ND 5A
footprint GullWing8Pin
pins: 1 Coil+, 2 NC1, 3 SW1, 4 NO1, 5 NO2, 6 SW2, 7 NC2, 8 Coil-

## Relay PB1247CT-ND
designator U?
Relay PB1247CT-ND 2A
footprint GullWing4Pin
pins: 1 Coil+, 3 SW1, 6 SW2, 8 Coil-

## Res
designator R?  (value not drawn)
Resistor; Published: 8-Sept-2015; LatestRevisionNote: Re-released for DXP Platform.; PackageReference: 0603; Publisher: Altium Limited; PackageDescription: SMD resistor; Value: =Value
simulation model RESISTOR (Resistor)
signal-integrity model Res
footprint 1608[0603] (Chip Capacitor, Body 1.6x0.8mm, IPC High Density)
footprint RES0402 (Chip Resistor, 2-Leads, Body 1.0x0.5mm, IPC Medium Density)
footprint RES0603 (Chip Resistor, 2-Leads, Body 1.6x0.8mm, IPC Medium Density)
footprint IND0805 (Chip Inductor 2-Leads, Body 2.0x1.2mm, IPC Medium Density)
footprint C1210 (Chip Capacitor, Body 3.2x2.5mm, IPC High Density)
pins: 1, 2

## SC632A
designator U?
SC632A; Manufacturer: SemTech; CompType: IC; PIN_COUNT: 11; PartNumber: SC632A; MountType: SMT; RoHS: Y; RefDes: RefDes; Type: TYPE; Value: Value
footprint MLPD-UT-8 2mmx2mm
pins: 1 GND, 2 C1+, 3 C1-, 4 IN, 5 EN, 6 OUT, 7 C2+, 8 C2-, 9 T

## Si826x_5kVisolator
designator U?, comment SiLab isolator
footprint SDIP6
pins: 1, 2, 3, 4, 5, 6

## Si8230AB-B-IS1
designator U?
Imported; RefDes: RefDes; Type: DEV; Value: Value
footprint SOIC-16
pins: 1 VIA (in), 2 VIB (in), 3 VDDI, 4 GNDI, 5 DISABLE (in), 6 DT (in), 7 NC, 8 VDDI, 9 GNDB, 10 VOB (out), 11 VDDB, 12 NC, 13 NC, 14 GNDA, 15 VOA (out), 16 VDDA

## Si8423BB-B-IS
designator U?
Imported; RefDes: RefDes; Type: DEV; Value: Value
footprint SOIC-8
pins: 1 VDD1, 2 A1 (in), 3 A2 (in), 4 GND1, 5 GND2, 6 B2 (out), 7 B1 (out), 8 VDD2

## SM204RD-0009
designator U?
SM204RD-0009, high voltage divider; Component Link1: http://www.ohmite.com/cat/res_slimmox.pdf; Value1: =Value; Value2: =Value
footprint SM204RD (Ohmite resistor divider SM204RD)
pins: 1, 2, 3

## SMLED-LNJ347W83RA
designator D?, comment value Green  (hidden comment: LNJ347W83RA)
LED, Green SMD; Manufacturer: Panasonic; Type: InGaN; Vf_V: 1.95; Value2: 1.95V; Io_A: 0.005; Tjmax_C: 85; Value1: W; Color: yellow; U/M: EA; CompType: LED; PartNumber: LNJ347W83RA; SymbolVersion: 2008-12-08; MountType: SMT; RoHS: Y; PackageReference: Green LED; Published: 2015-08-22; Publisher: BrainCo; ComponentLink1URL: http://www.semicon.panasonic.co.jp/ds4/LNJ347W83RA_E.pdf; ComponentLink1Description: Datasheet link; LatestRevisionDate: 2013-09-07; Supplier 1: Digi-Key; Supplier Part Number 1: LNJ347W83RACT-ND
signal-integrity model Diode
footprint RES0603 (Chip Resistor, 2-Leads, Body 1.6x0.8mm, IPC Medium Density)
footprint IND0805 (Chip Inductor 2-Leads, Body 2.0x1.2mm, IPC Medium Density)
pins: 1 A, 2 K

## STL8N80K5_ST_mosfet
designator S?, comment MOSFET
ST 800V 4.5 A MOSFET STL8N80K5
footprint PowerFLAT5x6 (ST)
pins: 1 S, 2 G, 3 D

## TDK B82462G4
designator L?
TDK B82462G4; Value: =Value
footprint Chip inductor B82462G4
pins: 1, 2

## TestPin
designator *
footprint TestPoint325185
footprint IND0805 (Chip Inductor 2-Leads, Body 2.0x1.2mm, IPC Medium Density)
pins: 1, 2

## TestPinSingle
designator *
footprint ThroughHoleTestPin (ThroughHoleTestPin - Keystone Electronics 5001)
footprint TestPoint-MillMaxPin (MillMaxPin 1508 round male pin)
pins: 0

## TLV341_DBV_6
designator U?
Imported; Manufacturer_Part_Number: tlv341_dbv_6; GENERIC_PART_NUMBER: TLV341; Vendor: Texas Instruments; PACKAGE_DESIGNATOR: DBV; PIN_COUNT: 6; FAMILY_NAME: STANDARD LINEAR AMPLIFIER; INDUSTRY_STD_PKG_TYPE: SOT-23; Datasheet URL: http://www.ti.com/lit/gpn/TLV341; Manufacturer: Texas Instruments; RefDes: RefDes; Type: Type; Value: Value
footprint DBV6
footprint DBV6
pins: 1 IN+ (in), 2 GND (power), 3 IN- (in), 4 OUT (out), 5 *SHDN, 6 V+ (power)

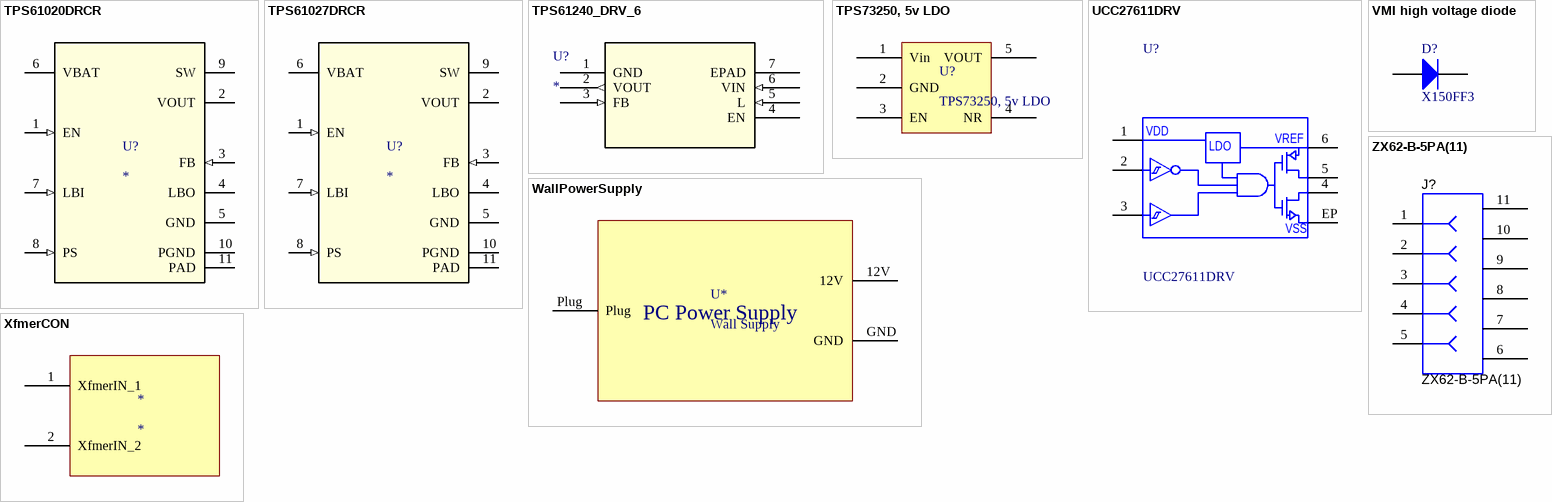
[diagram p3: symbols TPS61020DRCR to ZX62-B-5PA(11)]

## TPS61020DRCR
designator U?
Adjustable PS; PartNumber: TPS61020DRC; Manufacturer: Texas Instruments; CompType: IC; PIN_COUNT: 11; PackageReference: DRC0010A; MountType: SMT; RoHS: Y; RefDes: RefDes; Type: TYPE; Value: Value
footprint DRC0010A
pins: 1 EN (in), 2 VOUT (power), 3 FB (in), 4 LBO (oc), 5 GND (power), 6 VBAT (power), 7 LBI (in), 8 PS (in), 9 SW (power), 10 PGND (power), 11 PAD (power)

## TPS61027DRCR
designator U?
Imported; PartNumber: TPS61027DRCR; Manufacturer: Texas Instruments; CompType: IC; PIN_COUNT: 11; PackageReference: DRC0010J; MountType: SMT; RoHS: Y; RefDes: RefDes; Type: TYPE; Value: Value
footprint DRC0010J
footprint DRC0010J
pins: 1 EN (in), 2 VOUT (power), 3 FB (in), 4 LBO (oc), 5 GND (power), 6 VBAT (power), 7 LBI (in), 8 PS (in), 9 SW (power), 10 PGND (power), 11 PAD (power)

## TPS61240_DRV_6
designator U?
Imported; Manufacturer_Part_Number: tps61240_drv_6; GENERIC_PART_NUMBER: TPS61240; Vendor: Texas Instruments; PACKAGE_DESIGNATOR: DRV; PIN_COUNT: 6; FAMILY_NAME: STEP-UP REGULATOR; INDUSTRY_STD_PKG_TYPE: SON; Datasheet URL: http://www.ti.com/lit/gpn/TPS61240; Manufacturer: Texas Instruments; RefDes: RefDes; Type: Type; Value: Value
footprint DRV6_1P6X1
footprint DRV6_1P6X1
pins: 1 GND, 2 VOUT (out), 3 FB (in), 4 EN, 5 L (in), 6 VIN (in), 7 EPAD

## TPS73250, 5v LDO
designator U?
TPS73250, LDO; ComponentLink: http://www.digikey.com/scripts/DkSearch/dksus.dll?Detail&itemSeq=196056318&uq=635977843130932286
footprint SOT23-5
pins: 1 Vin, 2 GND, 3 EN, 4 NR, 5 VOUT

## UCC27611DRV
designator U?
eGaN Gate Driver with LDO; MFG: Texas Instruments; PCBfootprint: WSON-6; MFGPN: UCC27611DRV; Value: *; Config: *
footprint WSON-N6
pins: 1 VDD, 2 INB, 3 IN, 4 Nout, 5 Pout, 6 VREF, EP VSS
text: LDO

## VMI high voltage diode
designator D?, comment X150FF3
Published: 8-Sept-2015; PackageReference: Through-hole; Publisher: Altium Limited; PackageDescription: Diode, pad 20mmx15 mm (LxW. max); ComponentLink1Description: Manufacturer Link; ComponentLink1URL: http://www.voltagemultipliers.com/pdf/X20FF3_X50FF3_X100FF3_X150FF3_X20FF5_X50FF5_X100FF5_X150FF5.pdf
footprint Diode_X150FF3 (Through-hole Diode, Body 15x20mm)
pins: 1 A, 2 K

## WallPowerSupply
designator U*, comment Wall Supply
Link: https://www.adafruit.com/product/798
pins: 12V, GND, Plug
text: PC Power Supply

## XfmerCON
designator *
footprint CurrentSensor
pins: 1 XfmerIN_1, 2 XfmerIN_2

## ZX62-B-5PA(11)
designator J?
Connector, micro USB Type B, Receptacle, R/A, SMD; Manufacturer: Hirose Electric Co. Ltd.; SymbolCreator: a0411947; U/M: EA; SymbolVersion: 2013-04-05; PartNumber: ZX62-B-5PA(11); PackageReference: Micro USB-B receptacle; CompType: Receptacle; RoHS: Y; MountType: SMT; ComponentLink1Description: Datasheet Link; ComponentLink1URL: http://www.hirose.co.jp/cataloge_hp/e24200011.pdf; Publisher: Texas Instruments; LatestRevisionDate: 2013-11-19; Supplier 1: Digi-Key; Supplier Part Number 1: H11634CT-ND; Supplier 2: Mouser; Supplier Part Number 2: 798-ZX62-B-5PA11; Supplier 3: Farnell; Supplier Part Number 3: 1645325
footprint CONN_USB_micro_ZX62-B-5PA
footprint CONN_USB_micro_ZX62-B-5PA
pins: 1, 2, 3, 4, 5, 6, 7, 8, 9, 10, 11